# Altium footprint library ESDA14V2-2BF3.PcbLib: 1 footprints
Each footprint in its own frame and in the unit in brackets; x right, y up, seen from the top. Pads: shape width x height; smd on the part's side, far side on the other; paste and mask are expansions set on the pad; w line width, h text height; cw(c..) or ccw(c..) is an arc to the next point about the centre after c.
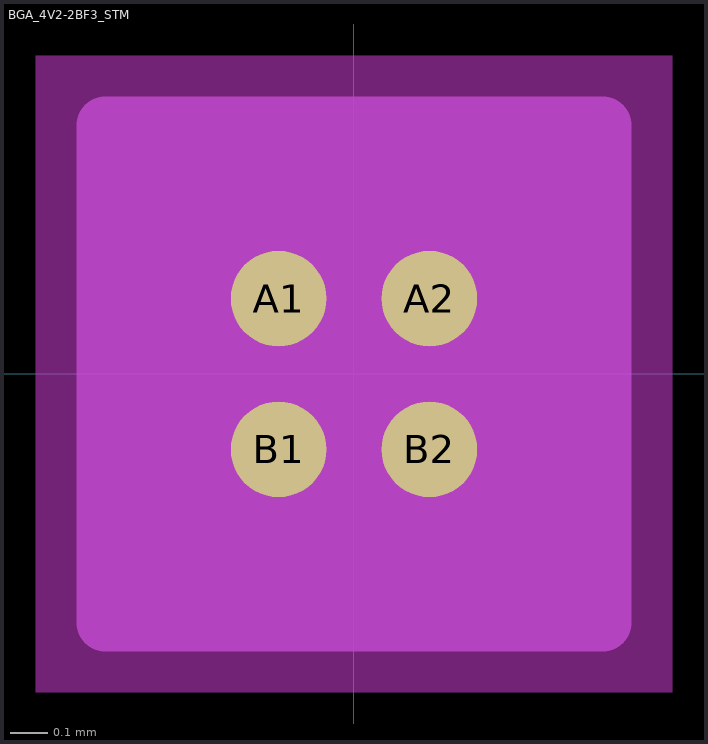
[diagram p0: the footprint, top view; thin cyan lines are the x and y axes]

## BGA_4V2-2BF3_STM [mil]
pads (4):
  round 10 smd paste+0 mask+0: A1(-7.88,7.88) A2(7.88,7.88) B1(-7.88,-7.88) B2(7.88,-7.88)
Keep-Out Layer:
  region: -33.25,-33.25 -33.25,33.25 33.25,33.25 33.25,-33.25
Mechanical 13:
  lines w1: -16,8.12 -8.12,16 ; -16,-16 -16,16 16,16 16,-16 -16,-16
Mechanical 15:
  region: 26,-26 -26,-26 -26,26 26,26
  lines w6: -26,-26 26,-26 26,26 -26,26 -26,-26
3D body "BGA_4V2-2BF3_STM.step": height 26.1, standoff 0, extent -15.98,-15.98 15.98,15.98